# Altium footprint library MPW-3.PcbLib: 1 footprints
Each footprint in its own frame and in the unit in brackets; x right, y up, seen from the top. Pads: shape width x height; smd on the part's side, far side on the other; paste and mask are expansions set on the pad; w line width, h text height; cw(c..) or ccw(c..) is an arc to the next point about the centre after c.
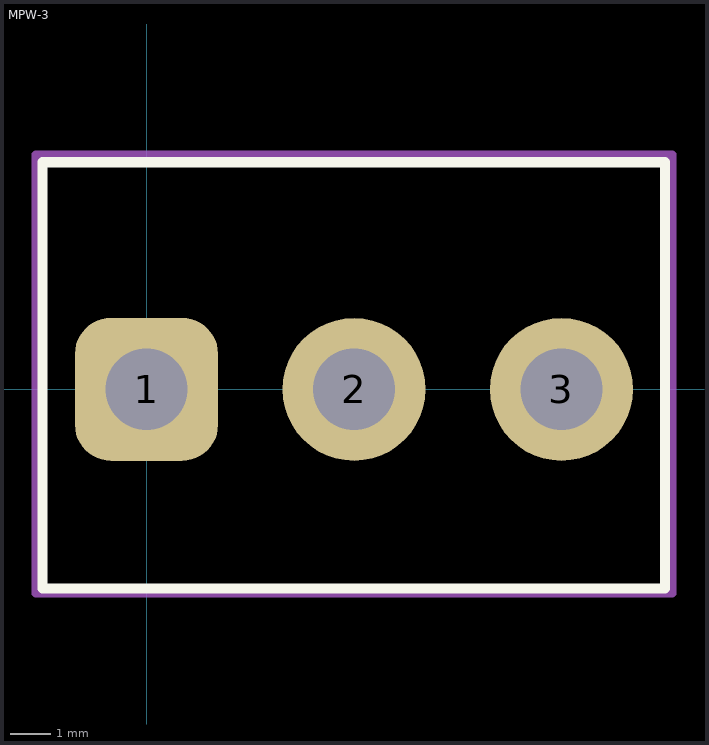
[diagram p0: the footprint, top view; thin cyan lines are the x and y axes]

## MPW-3 [mm]
pads (3):
  rrect50% 3.5x3.5 hole 2: 1(0,0)
  round 3.5 hole 2: 2(5.08,0) 3(10.16,0)
Top Overlay:
  lines w0.254: 2.535,-4.877 12.695,-4.877 12.695,5.563 2.535,5.563 ; 7.615,-4.877 -2.545,-4.877 -2.545,5.563 7.615,5.563
Top Courtyard:
  lines w0.2: 2.37,-5 12.87,-5 12.87,5.75 2.37,5.75 ; 7.79,-5 -2.71,-5 -2.71,5.75 7.79,5.75
3D body "User Library-MPW-2.step": height 14.17, standoff -3.23, extent -2.515,-4.851 7.645,5.603
3D body "User Library-MPW-2.step": height 14.17, standoff -3.23, extent 2.565,-4.851 12.725,5.603